# Altium schematic symbol library SIM900.SchLib: 12 symbols
Pins are listed as number, name and electrical type; pins without a type are passive.

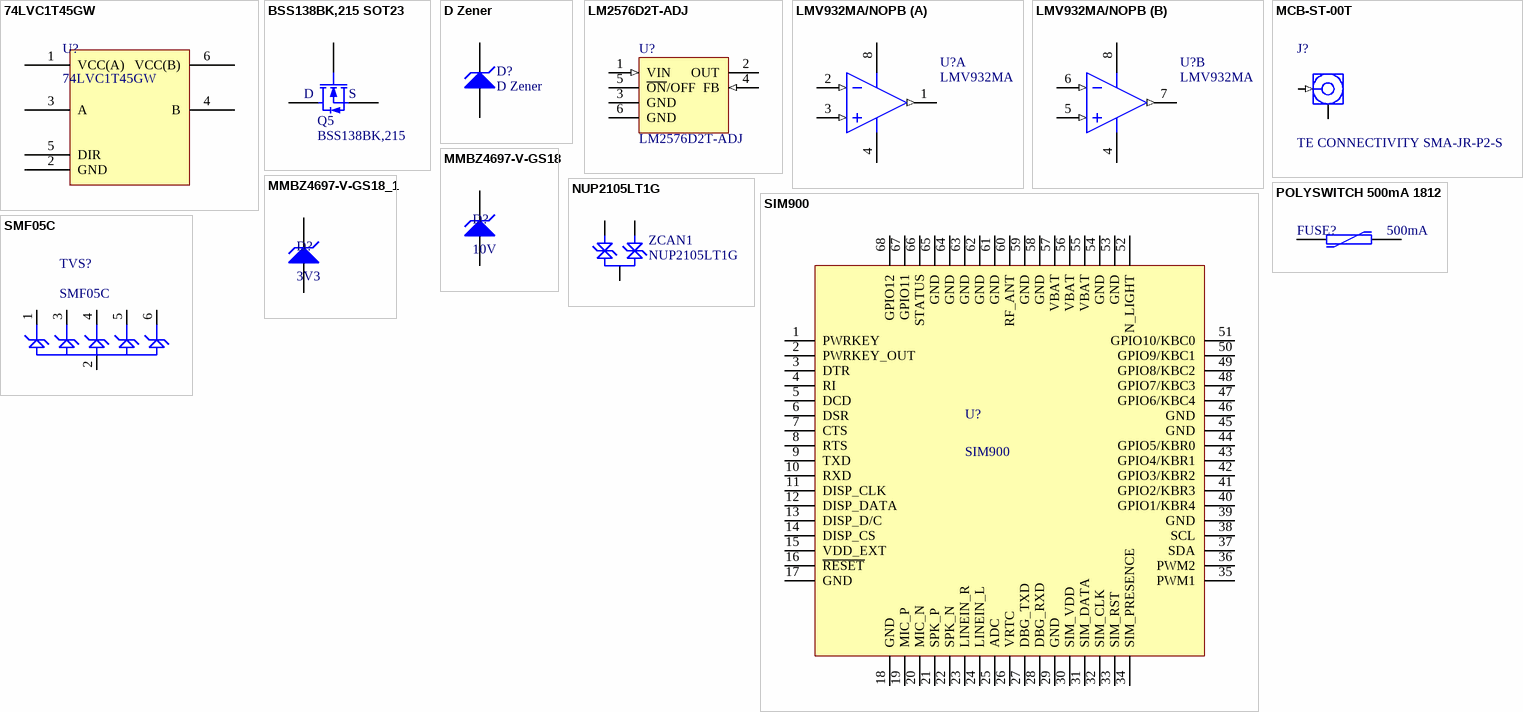
[diagram p0: symbols 74LVC1T45GW to SMF05C]

## 74LVC1T45GW
designator U?
74LVC1T45GW DUAL LEVEL TRANSLATOR; Value: 74LVC1T45GW
footprint SOT-363 (SOT-363/SC-88; 6 Leads; Body 2.2 x 2.2 mm, inc. leads (LxW max))
pins: 1 VCC(A), 2 GND, 3 A, 4 B, 5 DIR, 6 VCC(B)

## BSS138BK,215 SOT23
designator Q5, comment BSS138BK,215
N-Channel MOSFET; Value: BSS138BK,215
footprint SOT23-3L (SOT23, 3-Leads, Body 2.9x1.3mm, Pitch 0.95mm, Lead Span 2.5mm, IPC High Density)
pins: 1 G, 2 S, 3 D

## D Zener
designator D?
Zener Diode; Published: 8-Jun-2000; LatestRevisionDate: 17-Jul-2002; LatestRevisionNote: Re-released for DXP Platform.; PackageReference: DIODE-0.7; Publisher: Altium Limited; PackageDescription: Diode, Thru-Hole; 2 Leads; 0.7 in Pin Spacing
footprint DIODE-0.7 (Diode, Thru-Hole; 2 Leads; 0.7 in Pin Spacing)
simulation model ZENER (Diode)
signal-integrity model D Zener
pins: 1 A, 2 K

## LM2576D2T-ADJ
designator U?
Easy Switcher 3.0A Step-Down Voltage Regulator; Note: Pin 3 is electrically connected to Pin 6;Pin 6 is heatsink; Published: 15-Apr-2002; DatasheetVersion: Jul-1999; PackageVersion: Jul-1999; PackageReference: 936A-02; Publisher: Altium Limited; PackageDescription: D2-PAK; 5 Leads; Body 14.7 (inc. leads) x 10.2 mm (LxW max); ComponentLink1Description: Manufacturer Link; ComponentLink1URL: http://www.onsemi.com/site/products/taxonomy/0,4438,503,00.html; ComponentLink2Description: Datasheet; ComponentLink2URL: http://www.onsemi.com/pub/Collateral/LM2576-D.PDF
footprint D2-PAK (D2-PAK; 5 Leads; Body 14.7 (inc. leads) x 10.2 mm (LxW max))
pins: 1 VIN (in), 2 OUT (oe), 3 GND (power), 4 FB (in), 5 ~{ON}/OFF, 6 GND (power)

## LMV932MA/NOPB
designator U?, comment LMV932MA
Low Power Dual Operational Amplifier, 8-pin Narrow SOIC; Value: LMV932MA
simulation model LM358 (SUBCKT)
footprint SO-8 (SOIC, 8-Leads, Body 4.9x3.9mm, Pitch 1.27mm, IPC High Density)
pins on every part: 4 GND (power), 8 V+ (power)
part A pins: 1 OUTA (out), 2 INA- (in), 3 INA+ (in)
part B pins: 5 INB+ (in), 6 INB- (in), 7 OUTB (out)

## MCB-ST-00T
designator J?, comment TE CONNECTIVITY SMA-JR-P2-S
SMA CONNECTOR TE CONNECTIVITY
signal-integrity model RF Coaxial
footprint SMA-JR-P2-S
pins: 1 Signal (in) "Signal Pin", 2 GND (power)

## MMBZ4697-V-GS18
designator D?, comment 10V
MMBZ4697-V-GS18 Zener Diodes 10 Volt 0.35 Watt 5%; Mouser Part No.: 78-MMBZ4697-VGS18
footprint SOT23-3L (SOT23, 3-Leads, Body 2.9x1.3mm, Pitch 0.95mm, Lead Span 2.5mm, IPC High Density)
pins: 1 A, 3 K

## MMBZ4697-V-GS18_1
designator D?, comment 3V3
MMBZ4697-V-GS18 Zener Diode 3.3Volt 0.35 Watt 5%; Mouser Part No.: 78-MMBZ4620-V
footprint SOT23-3L (SOT23, 3-Leads, Body 2.9x1.3mm, Pitch 0.95mm, Lead Span 2.5mm, IPC High Density)
pins: 1 A, 3 K

## NUP2105LT1G
designator ZCAN1
Manufacturer: FAIRCHILD SEMICONDUCTOR; Mouser Part no.: 863-NUP2105LT1G; Manufacturer Part No.: NUP2105LT1G; value: NUP2105LT1G; Web link: http://au.mouser.com/ProductDetail/ON-Semiconductor/NUP2105LT1G/?qs=sGAEpiMZZMsYiK5PgaDog%2f9t8dbz5jk31lf22f1nwRs%3d
footprint SOT23-3L (SOT23, 3-Leads, Body 2.9x1.3mm, Pitch 0.95mm, Lead Span 2.5mm, IPC High Density)
pins: 1 Zb, 2 Za, 3 GND

## POLYSWITCH 500mA 1812
designator FUSE?, comment 500mA
POLYSWITCH 500mA 1812; Mouser Part No.: PTS181216V050; value: 500mA
footprint miniSMD Polyswitch (RAYCHEM - MINISMDC050F-2)
pins: 1, 2

## SIM900
designator U?
footprint SIM900
pins: 1 PWRKEY, 2 PWRKEY_OUT, 3 DTR, 4 RI, 5 DCD, 6 DSR, 7 CTS, 8 RTS, 9 TXD, 10 RXD, 11 DISP_CLK, 12 DISP_DATA, 13 DISP_D/C, 14 DISP_CS, 15 VDD_EXT, 16 ~{RESET}, 17 GND, 18 GND, 19 MIC_P, 20 MIC_N, 21 SPK_P, 22 SPK_N, 23 LINEIN_R, 24 LINEIN_L, 25 ADC, 26 VRTC, 27 DBG_TXD, 28 DBG_RXD, 29 GND, 30 SIM_VDD, 31 SIM_DATA, 32 SIM_CLK, 33 SIM_RST, 34 SIM_PRESENCE, 35 PWM1, 36 PWM2, 37 SDA, 38 SCL, 39 GND, 40 GPIO1/KBR4, 41 GPIO2/KBR3, 42 GPIO3/KBR2, 43 GPIO4/KBR1, 44 GPIO5/KBR0, 45 GND, 46 GND, 47 GPIO6/KBC4, 48 GPIO7/KBC3, 49 GPIO8/KBC2, 50 GPIO9/KBC1, 51 GPIO10/KBC0, 52 N_LIGHT, 53 GND, 54 GND, 55 VBAT, 56 VBAT, 57 VBAT, 58 GND, 59 GND, 60 RF_ANT, 61 GND, 62 GND, 63 GND, 64 GND, 65 GND, 66 STATUS, 67 GPIO11, 68 GPIO12

## SMF05C
designator TVS?
footprint SOT-363 (SOT-363/SC-88; 6 Leads; Body 2.2 x 2.2 mm, inc. leads (LxW max))
pins: 1 K1, 2 A, 3 K2, 4 K3, 5 K4, 6 K5